# Altium footprint library FF_pcb_lib.PcbLib: 102 footprints (part 4 of 7)
Each footprint in its own frame and in the unit in brackets; x right, y up, seen from the top. Pads: shape width x height; smd on the part's side, far side on the other; paste and mask are expansions set on the pad; w line width, h text height; cw(c..) or ccw(c..) is an arc to the next point about the centre after c.
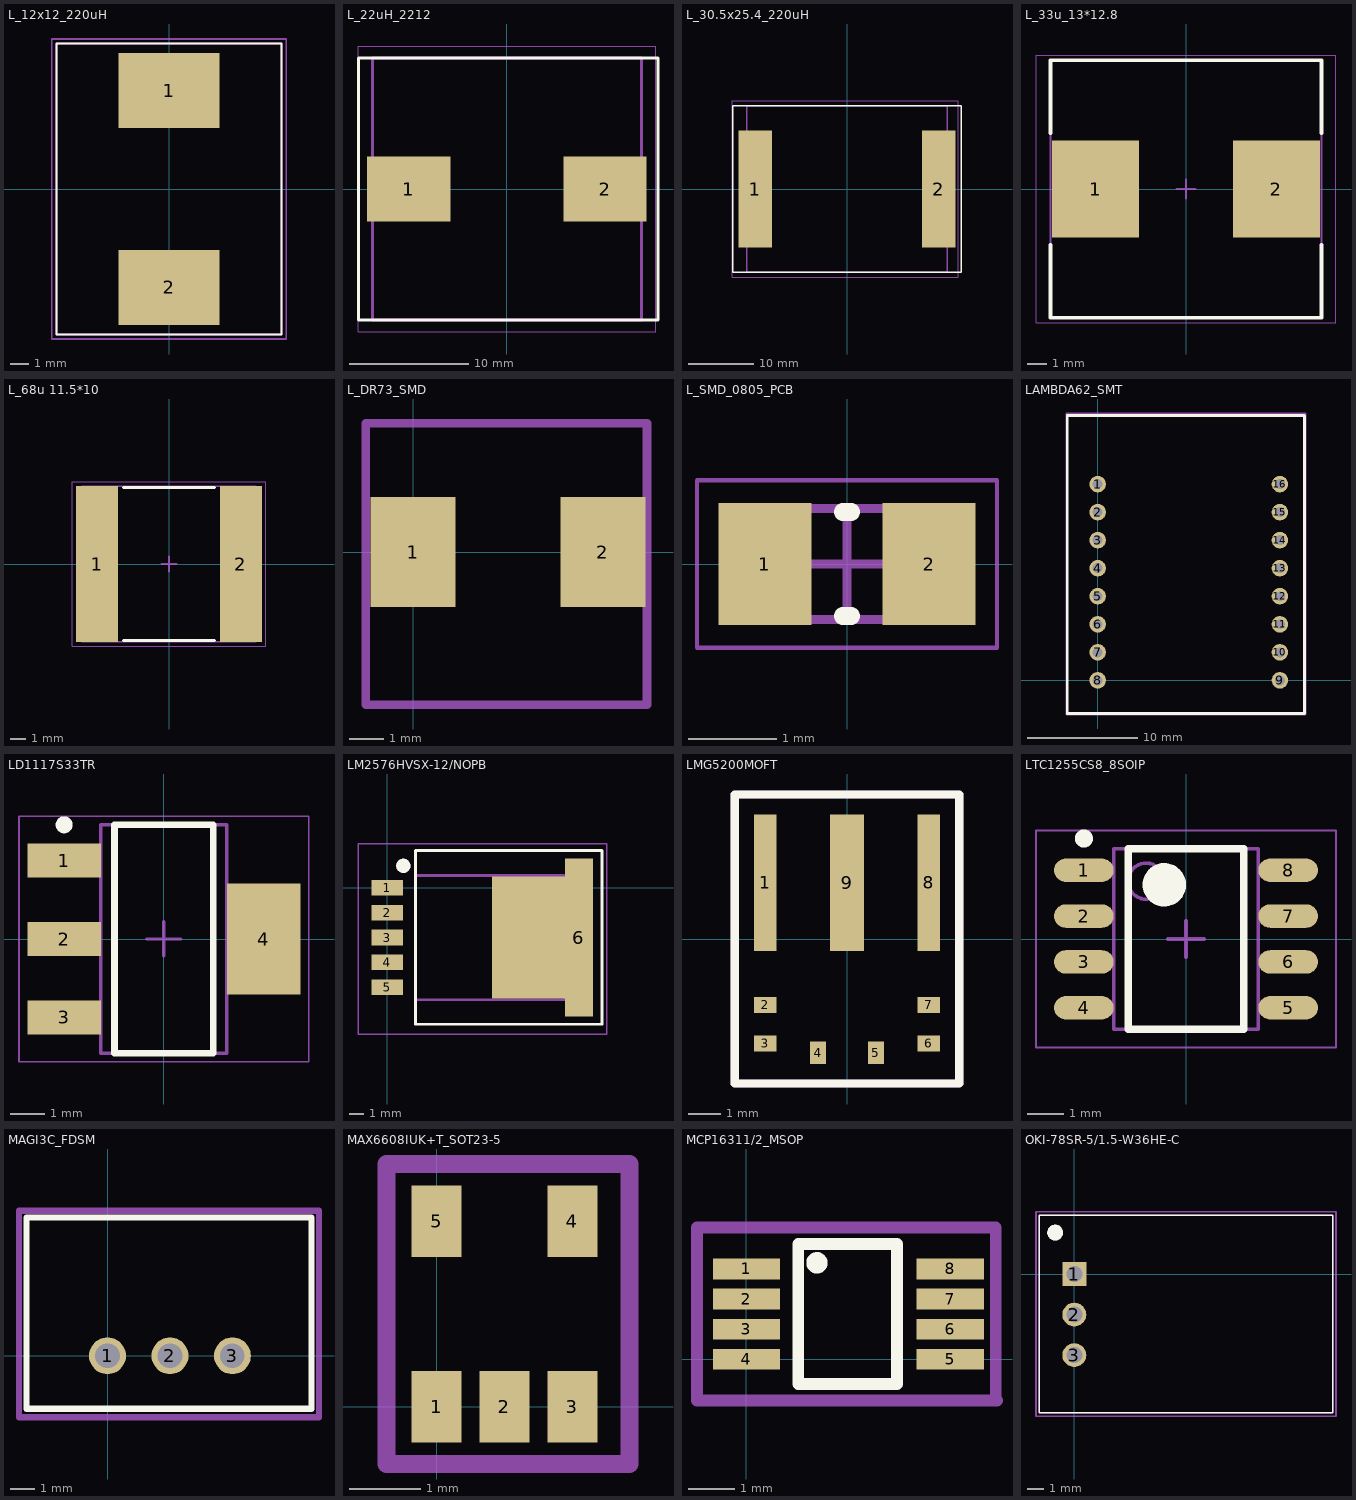
[diagram p3: the footprints below, top view; thin cyan lines are the x and y axes]

## L_12x12_220uH [mm]
pads (2):
  rect 5.4x4 smd: 1(0,5.25) 2(0,-5.25)
Top Overlay:
  lines w0.1: -6,-7.75 6,-7.75 6,7.75 -6,7.75 -6,-7.75
Mechanical 13:
  lines w0.1: -6,-7.75 -6,7.75 6,7.75 6,-7.75 -6,-7.75
Mechanical 15:
  lines w0.1: -6.25,-8 -6.25,8 6.25,8 6.25,-8 -6.25,-8
3D body: height 10, standoff 0.1, extent -6,-6 6,6

## L_22uH_2212 [mm]
pads (2):
  rect 7x5.5 smd: 1(-8.25,0) 2(8.25,0)
Top Overlay:
  lines w0.254: -12.475,-11 12.7,-11 12.7,11 0,11 -12.475,11 -12.475,-11
Mechanical 13:
  lines w0.254: -11.3,-11 -11.3,11 0,11 11.3,11 11.3,-11 -11.3,-11
  text "'.Designator'" at -3,0.8 h0.7
Mechanical 15:
  lines w0.1: -12.5,-12 -12.5,12 12.5,12 12.5,-12 -12.5,-12
3D body: height 5.4, standoff 0.1, extent 13.8,6.1 13.8,6.1
3D body: height 12, standoff 0.1, extent -11.2,-11 11.2,10.8

## L_30.5x25.4_220uH [mm]
pads (2):
  rect 5.1x17.8 smd: 1(-14,0) 2(14,0)
Top Overlay:
  lines w0.254: -17.45,-12.7 -17.45,12.7 0,12.7 17.45,12.7 17.45,-12.7 -17.45,-12.7
Mechanical 13:
  lines w0.254: -15.3,-12.7 15.3,-12.7 15.3,12.7 0,12.7 -15.3,12.7 -15.3,-12.7
  text "'.Designator'" at -4,2 h0.7
Mechanical 15:
  lines w0.1: -17.5,-13.5 17,-13.5 17,13.5 -17.5,13.5 -17.5,-13.5
3D body: height 15.3, standoff 0.1, extent -15.3,-12.7 15.4,12.7

## L_33u_13*12.8 [mm] "Molded Capacitor, 2-Leads, Body 13.00x12.80mm, IPC Medium Density"
height 6.5
pads (2):
  rect 4.5x5 smd: 1(-4.675,0) 2(4.675,0)
Top Overlay:
  lines w0.2: -7,-2.9 -7,-6.65 7,-6.65 7,-2.9 ; -7,2.9 -7,6.65 7,6.65 7,2.9
Mechanical 13:
  lines w0.1: -7,-6.65 7,-6.65 7,6.65 -7,6.65 -7,-6.65
Mechanical 15:
  lines w0.05: -7.75,-6.9 7.75,-6.9 7.75,6.9 -7.75,6.9 -7.75,-6.9
  lines w0.1: -0.5,0 0.5,0 ; 0,-0.5 0,0.5
3D body: height 6.5, standoff 0, extent -7,-6.65 7,6.65

## L_68u 11.5*10 [mm] "Chip Inductor, 2-Leads, Body 11.45x10.00mm, IPC Medium Density"
height 4
pads (2):
  rect 2.76x10.32 smd: 1(-4.75,0) 2(4.75,0)
Top Overlay:
  lines w0.2: -3,-5.06 3,-5.06 ; -3,5.06 3,5.06
Mechanical 13:
  lines w0.1: -5.75,-5.15 -5.75,5.15 5.75,5.15 5.75,-5.15 -5.75,-5.15
Mechanical 15:
  lines w0.05: -6.4,-5.45 -6.4,5.45 6.4,5.45 6.4,-5.45 -6.4,-5.45
  lines w0.1: -0.5,0 0.5,0 ; 0,-0.5 0,0.5
3D body: height 4, standoff 0, extent -3.75,-5.15 3.75,5.15
3D body: height 4, standoff 0, extent -5.75,-5.15 -3.75,5.15
3D body: height 4, standoff 0, extent 3.75,-5.15 5.75,5.15

## L_DR73_SMD [mm]
pads (2):
  rect 2.5x3.25 smd: 1(0,0) 2(5.6,0)
Courtyard:
  lines w0.254: -1.4,-4.5 -1.4,3.8 6.9,3.8 6.9,-4.5 -1.4,-4.5
3D body: height 3.5, standoff 0, extent -1.016,-4.318 6.604,3.556

## L_SMD_0805_PCB [mm]
height 0.8
pads (2):
  rect 1.05x1.38 smd: 1(-0.93,0) 2(0.93,0)
Top Overlay:
  lines w0.2: -0.05,-0.59 0.05,-0.59 ; -0.05,0.59 0.05,0.59
Mechanical 13:
  lines w0.1: -1.075,-0.63 1.075,-0.63 1.075,0.63 -1.075,0.63 -1.075,-0.63
Mechanical 15:
  lines w0.05: -1.7,-0.95 1.7,-0.95 1.7,0.95 -1.7,0.95 -1.7,-0.95
  lines w0.1: -0.5,0 0.5,0 ; 0,-0.5 0,0.5
3D body: height 1.25, standoff 0, extent 0.575,-0.63 1.075,0.63
3D body: height 1.25, standoff 0, extent -1.075,-0.63 -0.575,0.63
3D body: height 1.25, standoff 0, extent -0.575,-0.63 0.575,0.63

## LAMBDA62_SMT [mm]
pads (16):
  round 1.5 hole 0.9: 1(0,17.78) 2(0,15.24) 3(0,12.7) 4(0,10.16) 5(0,7.62) 6(0,5.08) 7(0,2.54) 8(0,0) 9(16.51,0) 10(16.51,2.54) 11(16.51,5.08) 12(16.51,7.62) 13(16.51,10.16) 14(16.51,12.7) 15(16.51,15.24) 16(16.51,17.78)
Top Overlay:
  lines w0.254: -2.75,-3 18.75,-3 18.75,24 -2.75,24 -2.75,-3
Courtyard:
  lines w0.254: -2.794,-3.048 18.796,-3.048 18.796,24.13 -2.794,24.13 -2.794,-3.048
3D body: height 4, standoff 4, extent -2.794,-3.048 18.796,24.13

## LD1117S33TR [mm] "SOT223, 4-Leads, Body 6,50x7,00mm (avg), Pitch 2,30mm, IPC Medium Density"
height 1.8
pads (4):
  rect 2.15x1 smd: 1(-2.925,2.3) 2(-2.925,0) 3(-2.925,-2.3)
  rect 2.15x3.25 smd: 4(2.925,0)
Top Overlay:
  circle w0.25: c-2.925,3.35 r0.125
  lines w0.2: -1.45,-3.35 1.45,-3.35 1.45,3.35 -1.45,3.35 -1.45,-3.35
Mechanical 13:
  lines w0.1: -1.85,-3.35 1.85,-3.35 1.85,3.35 -1.85,3.35 -1.85,-3.35
Mechanical 15:
  lines w0.05: -4.25,-3.6 4.25,-3.6 4.25,3.6 -4.25,3.6 -4.25,-3.6
  lines w0.1: -0.5,0 0.5,0 ; 0,-0.5 0,0.5
3D body: height 1.8, standoff 0.02, extent -1.85,-3.35 1.85,3.35

## LM2576HVSX-12/NOPB [mm]
pads (9):
  rect 2.16x1.07 smd: 1(0,0) 2(0,-1.7) 3(0,-3.4) 4(0,-5.1) 5(0,-6.8)
  rect 1.91x10.8 smd: 6(13.1,-3.4)
  round 1 on Top Overlay: ""(1.1,1.5)
  round 1 on Mech13: ""(1.1,1.5)
  rect 5.08x8.33 smd: ""(9.7,-3.4)
Top Overlay:
  lines w0.2: 1.915,-9.325 1.915,2.55 6.7,2.55 14.675,2.55 14.675,-9.325 1.915,-9.325
Mechanical 13:
  lines w0.2: 1.915,-7.65 12.085,-7.65 12.085,0.85 7.425,0.85 1.915,0.85 1.915,-7.65
  text "'.Designator'" at 3.6,-3.3 h0.7
Mechanical 15:
  lines w0.1: -2,-10 15,-10 15,3 -2,3 -2,-10
3D body: height 4.57, standoff 0, extent 2,-7.6 12,0.8

## LMG5200MOFT [mm]
pads (9):
  rect 0.7x4.25 smd: 1(-2.55,1.75) 8(2.55,1.75)
  rect 0.7x0.5 smd: 2(-2.55,-2.05) 3(-2.55,-3.25) 6(2.55,-3.25) 7(2.55,-2.05)
  rect 0.5x0.7 smd: 4(-0.9,-3.55) 5(0.9,-3.55)
  rect 1.05x4.25 smd: 9(0,1.75)
Top Overlay:
  lines w0.254: -3.5,-4.5 3.5,-4.5 3.5,4.5 -3.5,4.5 -3.5,-4.5
Courtyard:
  lines w0.254: -3.5,-4.5 -3.5,4.5 3.5,4.5 3.5,-4.5 -3.5,-4.5
3D body: height 3, standoff 0, extent -3.5,-4.5 3.5,4.5

## LTC1255CS8_8SOIP [mm] "8-SOIP"
height 1.76
pads (8):
  oval 1.65x0.65 smd: 1(-2.825,1.905) 2(-2.825,0.635) 3(-2.825,-0.635) 4(-2.825,-1.905) 5(2.825,-1.905) 6(2.825,-0.635) 7(2.825,0.635) 8(2.825,1.905)
Top Overlay:
  circle w0.6: c-0.6,1.5 r0.3
  circle w0.25: c-2.825,2.78 r0.125
  lines w0.2: -1.6,-2.5 1.6,-2.5 1.6,2.5 -1.6,2.5 -1.6,-2.5
Mechanical 13:
  circle w0.1: c-1.1,1.6 r0.5
  lines w0.1: -2,-2.5 2,-2.5 2,2.5 -2,2.5 -2,-2.5
Mechanical 15:
  lines w0.05: -4.15,-3 4.15,-3 4.15,3 -4.15,3 -4.15,-3
  lines w0.1: -0.5,0 0.5,0 ; 0,-0.5 0,0.5
3D body "SOIC8-150-50.STEP": height 1.91, standoff 0, extent -3,-2.45 3,2.45

## MAGI3C_FDSM [mm]
pads (3):
  round 1.5 hole 1: 1(0,0) 2(2.54,0) 3(5.08,0)
Top Overlay:
  lines w0.254: -3.3,-2.15 8.3,-2.15 8.3,5.625 -3.3,5.625 -3.3,-2.15
Courtyard:
  lines w0.254: -3.6,-2.5 8.6,-2.5 8.6,5.9 -3.6,5.9 -3.6,-2.5
3D body: height 10, standoff 0, extent -3.2,-2 8.2,5.5

## MAX6608IUK+T_SOT23-5 [mm]
pads (5):
  rect 0.7x1 smd mask+0.05: 1(0,0) 2(0.95,0) 3(1.901,0) 4(1.901,2.6) 5(0,2.6)
Courtyard:
  lines w0.254: -0.7,-0.8 -0.7,3.4 2.7,3.4 2.7,-0.8 -0.7,-0.8
3D body: height 2, standoff 0, extent -0.4,0.1 2.3,2.5

## MCP16311/2_MSOP [mm]
pads (8):
  rect 1.45x0.45 smd paste+0 mask+0.05: 1(0,1.95)
  rect 1.45x0.45 smd mask+0.05: 2(0,1.3) 3(0,0.65) 4(0,0) 5(4.4,0) 6(4.4,0.65) 7(4.4,1.3) 8(4.4,1.95)
Top Overlay:
  circle w0.254: c1.524,2.083 r0.105
  lines w0.254: 1.118,-0.533 1.118,2.489 3.251,2.489 3.251,-0.533 1.118,-0.533
Courtyard:
  lines w0.254: -0.889,2.845 5.385,2.845 5.385,-0.864 5.41,-0.889 -1.067,-0.889 -1.067,2.845 -0.864,2.845
3D body: height 1.1, standoff 0, extent 0.813,-0.66 3.556,2.642

## OKI-78SR-5/1.5-W36HE-C [mm]
pads (5):
  rect 1.5x1.5 hole 1: 1(0,0)
  round 1.5 hole 1: 2(0,-2.54) 3(0,-5.08)
  round 1 on Top Overlay: ""(-1.2,2.6)
  round 1 on Mech13: ""(-1.2,2.6)
Top Overlay:
  lines w0.1: -2.2,-2.555 -2.2,-8.7 -2.185,-8.685 16.185,-8.685 16.185,3.685 -2.185,3.685 -2.185,-2.54
Mechanical 13:
  lines w0.1: -2.2,-2.555 -2.2,-8.7 -2.185,-8.685 16.185,-8.685 16.185,3.685 -2.185,3.685 -2.185,-2.54
Mechanical 15:
  lines w0.1: -2.4,-8.9 16.4,-8.9 16.4,3.9 -2.4,3.9 -2.4,-8.9
3D body: height 10.7, standoff 0.1, extent -2.1,-8.6 16.1,3.6
3D body: height 5, standoff 0.1, extent 0.8,5.8 0.8,5.8